# EAGLE library part LSM330 (library kmod-testing)
6-axis accel + gyro http://www.digikey.com/product-detail/en/LSM330TR/497-14381-1-ND/4725838 http://www.st.com/web/en/resource/technical/document/datasheet/DM00059856.pdf Note: NOT LSM330D
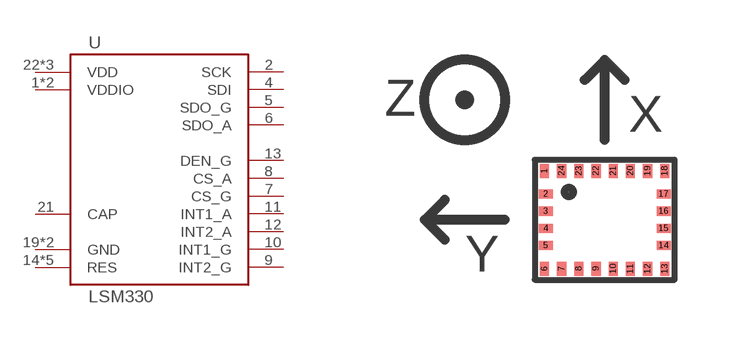
[diagram p17: symbol with the pads of LSM330; footprint LSM330]

Designator prefix -

## LSM330  [LSM330]
1  VDDIO  in
2  SCK
3  VDDIO  in
4  SDI
5  SDO_G
6  SDO_A
7  CS_G  in
8  CS_A  in
9  INT2_G  out
10  INT1_G  out
11  INT1_A  out
12  INT2_A  out
13  DEN_G  in
14  RES  in
15  RES  in
16  RES  in
17  RES  in
18  RES  in
19  GND  in
20  GND  in
21  CAP  in
22  VDD  in
23  VDD  in
24  VDD  in

## Footprint LSM330 (pad centres in mm)
6-axis accel + gyro http://www.st.com/web/en/resource/technical/document/datasheet/DM00059856.pdf Note: NOT LSM330D
smd 0.23 x 0.35: 1 -1.505,1.225; 6 -1.505,-1.225; 7 -1.075,-1.225; 8 -0.645,-1.225; 9 -0.215,-1.225; 10 0.215,-1.225; 11 0.645,-1.225; 12 1.075,-1.225; 13 1.505,-1.225; 18 1.505,1.225; 19 1.075,1.225; 20 0.645,1.225; 21 0.215,1.225; 22 -0.215,1.225; 23 -0.645,1.225; 24 -1.075,1.225
smd 0.35 x 0.23: 2 -1.475,0.645; 3 -1.475,0.215; 4 -1.475,-0.215; 5 -1.475,-0.645; 14 1.475,-0.645; 15 1.475,-0.215; 16 1.475,0.215; 17 1.475,0.645